# Altium footprint library MODCON.PcbLib: 1 footprints
Each footprint in its own frame and in the unit in brackets; x right, y up, seen from the top. Pads: shape width x height; smd on the part's side, far side on the other; paste and mask are expansions set on the pad; w line width, h text height; cw(c..) or ccw(c..) is an arc to the next point about the centre after c.
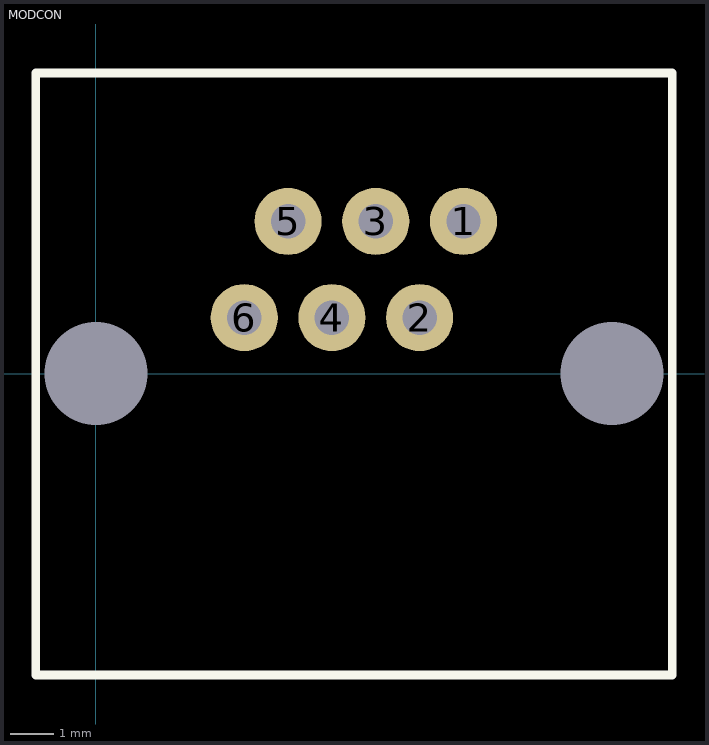
[diagram p0: the footprint, top view; thin cyan lines are the x and y axes]

## MODCON [mm]
pads (8):
  rect 0x0 hole 2.4: 0(0,0) 0(12,0)
  round 1.562 hole 0.8: 1(8.55,3.54) 2(7.53,1.3) 3(6.51,3.54) 4(5.49,1.3) 5(4.47,3.54) 6(3.45,1.3)
TopOverlay:
  lines w0.203: -1.397,-7.01 -1.397,6.99 13.403,6.99 13.403,-7.01 -1.397,-7.01